# Altium schematic symbol library Conn,RJ-11,6P4C,Thru.Schlib: 1 symbol
Pins are listed as number, name and electrical type; pins without a type are passive.

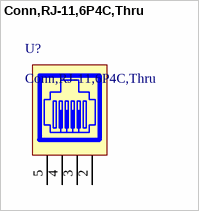
[diagram p0: symbol Conn,RJ-11,6P4C,Thru]

## Conn,RJ-11,6P4C,Thru
designator U?
Jack Modular Connector 6p4c (RJ11, RJ14) Vertical Unshielded
pins: 2, 3, 4, 5